# EAGLE library part DRV8662_PIEZO_HAPTICS_DRIVER (library PiB)
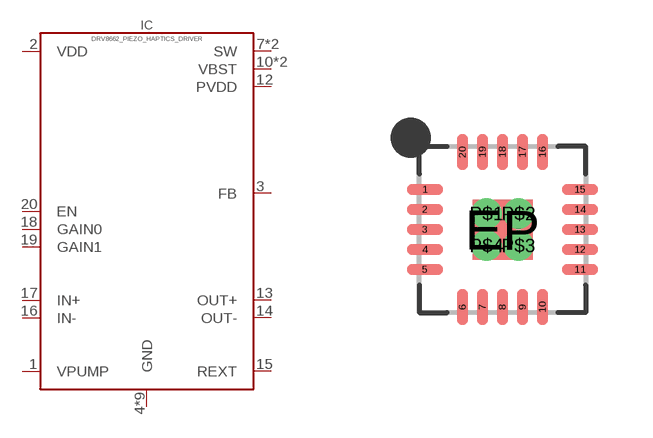
[diagram p16: symbol with the pads of QFN50P400X400X100-21T270; footprint QFN50P400X400X100-21T270]

Designator prefix IC

## DRV8662_PIEZO_HAPTICS_DRIVER_QFN-20-EP (DATASHEET: http://www.ti.com/lit/ds/symlink/drv8662.pdf; DIST: Digikey; DISTLINK: https://www.digikey.com/products/en?keywords=296-29164-1-ND; DISTPN: 296-29164-1-ND; MFR: Texas Instruments; MPN: DRV8662RGPR; VALUE: DRV8662)  [QFN50P400X400X100-21T270]
1  VPUMP  pwr
2  VDD  pwr
3  FB  in
4  GND  pwr
5  GND  pwr
6  GND  pwr
7  SW  pwr
8  SW  pwr
9  GND  pwr
10  VBST  pwr
11  VBST  pwr
12  PVDD  pwr
13  OUT+  out
14  OUT-  out
15  REXT  in
16  IN-  in
17  IN+  in
18  GAIN0  in
19  GAIN1  in
20  EN  in
EP  GND  pwr
P$1  GND  pwr
P$2  GND  pwr
P$3  GND  pwr
P$4  GND  pwr

## Footprint QFN50P400X400X100-21T270 (pad centres in mm)
20-QFN, 0.50 mm pitch, 4.00 X 4.00 X 1.00 mm body, 2.70 X 2.70 mm thermal pad 20-pin QFN package with 0.50 mm pitch with body size 4.00 X 4.00 X 1.00 mm and thermal pad size 2.70 X 2.70 mm
smd 0.896 x 0.264: 1 -1.937,1; 2 -1.937,0.5; 3 -1.937,0; 4 -1.937,-0.5; 5 -1.937,-1; 11 1.937,-1; 12 1.937,-0.5; 13 1.937,0; 14 1.937,0.5; 15 1.937,1
smd 0.264 x 0.896: 6 -1,-1.937; 7 -0.5,-1.937; 8 0,-1.937; 9 0.5,-1.937; 10 1,-1.937; 16 1,1.937; 17 0.5,1.937; 18 0,1.937; 19 -0.5,1.937; 20 -1,1.937
smd 1.5 x 1.5: EP 0,0
drill 0.254 pad 0.381: P$1 -0.4,0.4; P$2 0.4,0.4; P$3 0.4,-0.4; P$4 -0.4,-0.4